# Altium footprint library EVQP7B01P.PcbLib: 1 footprints
Each footprint in its own frame and in the unit in brackets; x right, y up, seen from the top. Pads: shape width x height; smd on the part's side, far side on the other; paste and mask are expansions set on the pad; w line width, h text height; cw(c..) or ccw(c..) is an arc to the next point about the centre after c.
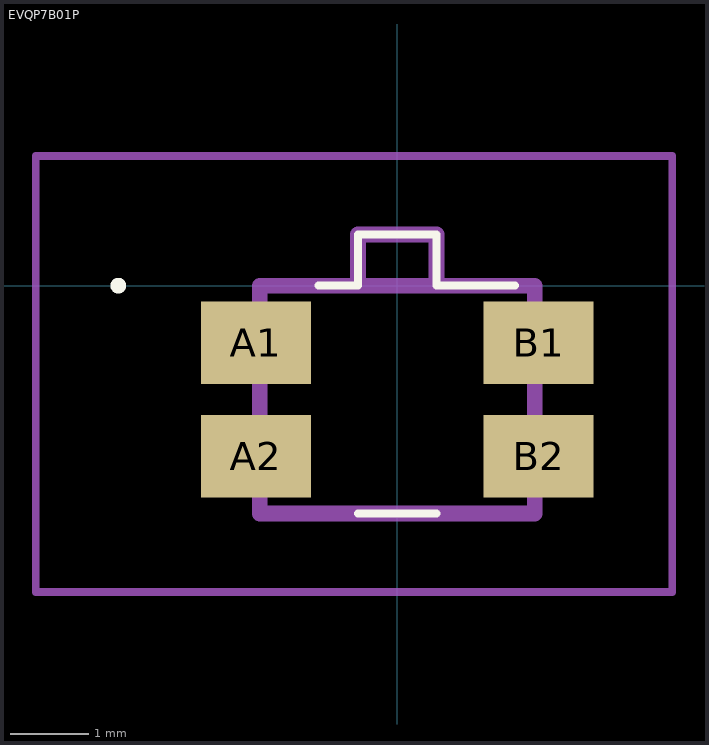
[diagram p0: the footprint, top view; thin cyan lines are the x and y axes]

## EVQP7B01P [mm]
pads (4):
  rect 1.4x1.05 smd: A1(-1.8,-0.725) A2(-1.8,-2.175) B1(1.8,-0.725) B2(1.8,-2.175)
Top Overlay:
  lines w0.1: -1,0 -0.5,0 -0.5,0.65 0.5,0.65 0.5,0 1.5,0 ; -0.5,-2.9 0.5,-2.9 ; -3.6,0 cw(c-3.55,0) -3.5,0 ; -3.6,0 -3.6,0 ; -3.6,0 ccw(c-3.55,0) -3.5,0 ; -3.5,0 -3.5,0
Mechanical 15:
  lines w0.2: -0.5,0 -0.5,0.65 0.5,0.65 0.5,0 ; -1.75,-2.9 1.75,-2.9 1.75,0 -1.75,0 -1.75,-2.9
Mechanical 20:
  lines w0.1: -4.6,-3.9 3.5,-3.9 3.5,1.65 -4.6,1.65 -4.6,-3.9